# EAGLE library part MRJ-538*1 (library Jack-connectors)
Amphenol Rugged RJ45 Connector, Right Angle, PCB mount, 8 position, optionaly 2 LEDs
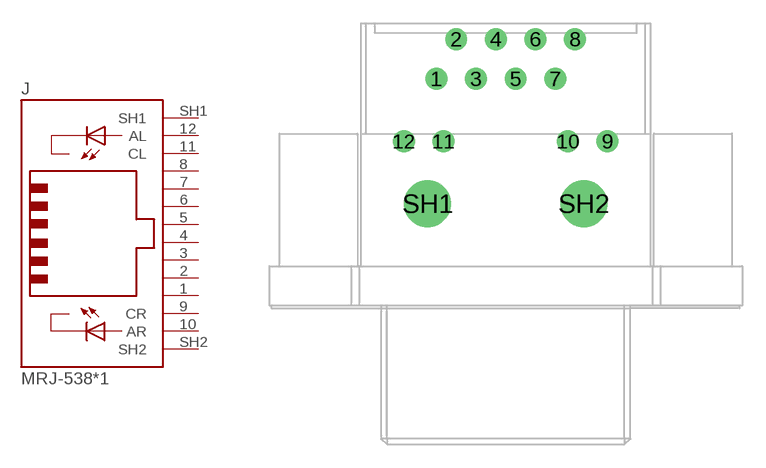
[diagram p16: symbol with the pads of MRJ-538X-X1; footprint MRJ-538X-X1]

Designator prefix J

## MRJ-5380-01 (CLRL: none; CLRR: none; DESCRIPTION: RJ45 rugged connector, 8 position, no LEDs, tail 2.54 mm, through hole or #4-40 threaded lugs; PACK: MRJ-538x-01), MRJ-5380-B1 (CLRL: none; CLRR: none; DESCRIPTION: RJ45 rugged connector, 8 position, no LEDs, tail 3.81 mm, through hole or #4-40 threaded lugs; PACK: MRJ-538x-B1), MRJ-5380-M1 (CLRL: none; CLRR: none; DESCRIPTION: RJ45 rugged connector, 8 position, no LEDs, tail 2.54 mm, M3 threaded lugs; PACK: MRJ-538x-M1), MRJ-5380-P1 (CLRL: none; CLRR: none; DESCRIPTION: RJ45 rugged connector, 8 position, no LEDs, tail 3.81 mm, M3 threaded lugs; PACK: MRJ-538x-P1), MRJ-5381-01 (CLRL: green; CLRR: yellow; DESCRIPTION: RJ45 rugged connector, 8 position, 2 LEDs (left Green, right Yellow), tail 2.54 mm, through hole or #4-40 threaded lugs; PACK: MRJ-538x-01), MRJ-5381-B1 (CLRL: green; CLRR: yellow; DESCRIPTION: RJ45 rugged connector, 8 position, 2 LEDs (left Green, right Yellow), tail 3.81 mm, through hole or #4-40 threaded lugs; PACK: MRJ-538x-B1), MRJ-5381-M1 (CLRL: green; CLRR: yellow; DESCRIPTION: RJ45 rugged connector, 8 position, 2 LEDs (left Green, right Yellow), tail 2.54 mm, M3 threaded lugs; PACK: MRJ-538x-M1), MRJ-5381-P1 (CLRL: green; CLRR: yellow; DESCRIPTION: RJ45 rugged connector, 8 position, 2 LEDs (left Green, right Yellow), tail 3.81 mm, M3 threaded lugs; PACK: MRJ-538x-P1), MRJ-5384-01 (CLRL: yellow; CLRR: green; DESCRIPTION: RJ45 rugged connector, 8 position, 2 LEDs (left Yellow, right Green), tail 2.54 mm, through hole or #4-40 threaded lugs; PACK: MRJ-538x-01), MRJ-5384-B1 (CLRL: yellow; CLRR: green; DESCRIPTION: RJ45 rugged connector, 8 position, 2 LEDs (left Yellow, right Green), tail 3.81 mm, through hole or #4-40 threaded lugs; PACK: MRJ-538x-B1), MRJ-5384-M1 (CLRL: yellow; CLRR: green; DESCRIPTION: RJ45 rugged connector, 8 position, 2 LEDs (left Yellow, right Green), tail 2.54 mm, M3 threaded lugs; PACK: MRJ-538x-M1), MRJ-5384-P1 (CLRL: yellow; CLRR: green; DESCRIPTION: RJ45 rugged connector, 8 position, 2 LEDs (left Yellow, right Green), tail 3.81 mm, M3 threaded lugs; PACK: MRJ-538x-P1), MRJ-5385-01 (CLRL: green; CLRR: green; DESCRIPTION: RJ45 rugged connector, 8 position, 2 LEDs (left Green, right Green), tail 2.54 mm, through hole or #4-40 threaded lugs; PACK: MRJ-538x-01), MRJ-5385-B1 (CLRL: green; CLRR: green; DESCRIPTION: RJ45 rugged connector, 8 position, 2 LEDs (left Green, right Green), tail 3.81 mm, through hole or #4-40 threaded lugs; PACK: MRJ-538x-B1), MRJ-5385-M1 (CLRL: green; CLRR: green; DESCRIPTION: RJ45 rugged connector, 8 position, 2 LEDs (left Green, right Green), tail 2.54 mm, M3 threaded lugs; PACK: MRJ-538x-M1), MRJ-5385-P1 (CLRL: green; CLRR: green; DESCRIPTION: RJ45 rugged connector, 8 position, 2 LEDs (left Green, right Green), tail 3.81 mm, M3 threaded lugs; PACK: MRJ-538x-P1)  [MRJ-538X-X1]
1  1  pas
2  2  pas
3  3  pas
4  4  pas
5  5  pas
6  6  pas
7  7  pas
8  8  pas
9  CR  pas
10  AR  pas
11  CL  pas
12  AL  pas
SH1  SH1  pas
SH2  SH2  pas

## Footprint MRJ-538X-X1 (pad centres in mm)
drill 0.9: 1 -4.44,11.75; 2 -3.17,14.29; 3 -1.9,11.75; 4 -0.63,14.29; 5 0.64,11.75; 6 1.91,14.29; 7 3.18,11.75; 8 4.45,14.29; 9 6.53,7.75; 10 3.99,7.75; 11 -3.99,7.75; 12 -6.53,7.75
drill 2: SH1 -5,3.75; SH2 5,3.75